# EAGLE library part AD5601/11/21 (library analog-devices)
nanoDAC SPI Interface, 2.7 V to 5.5 V, <100 ?A, 8-/10-/12-Bit
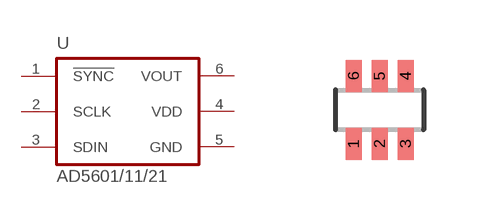
[diagram p43: symbol with the pads of SC70-6L; footprint SC70-6L]

Designator prefix U

## AD5601/11/21 (P1I: o)  [SC70-6L]
1  !SYNC!  in
2  SCLK  in
3  SDIN  in
4  VDD  pwr
5  GND  pwr
6  VOUT  out

## Footprint SC70-6L (pad centres in mm)
SC-70 Package
smd 0.4 x 0.8: 1 -0.65,-0.85; 2 0,-0.85; 3 0.65,-0.85; 4 0.65,0.85; 5 0,0.85; 6 -0.65,0.85